# Altium footprint library MAMK2520T1R0M.PcbLib: 1 footprints
Each footprint in its own frame and in the unit in brackets; x right, y up, seen from the top. Pads: shape width x height; smd on the part's side, far side on the other; paste and mask are expansions set on the pad; w line width, h text height; cw(c..) or ccw(c..) is an arc to the next point about the centre after c.
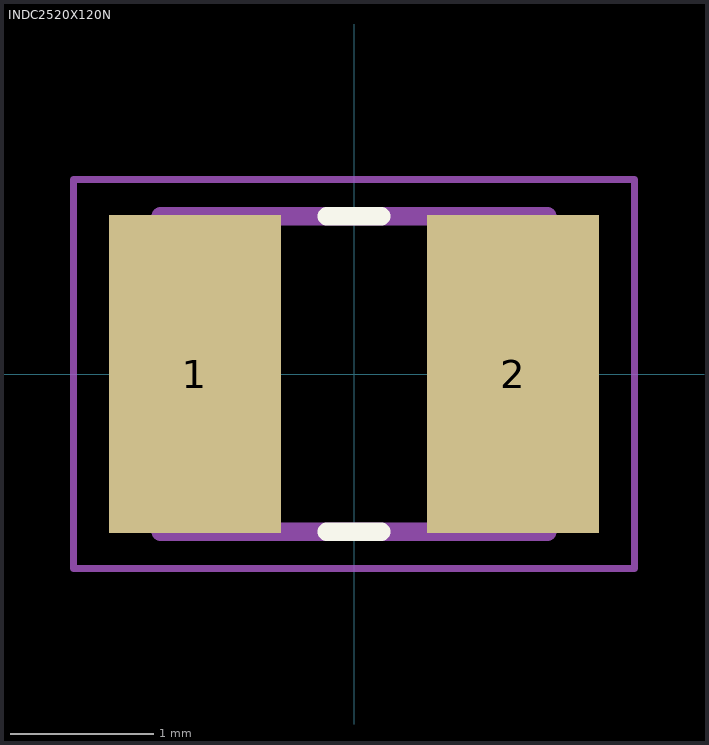
[diagram p0: the footprint, top view; thin cyan lines are the x and y axes]

## INDC2520X120N [mm]
pads (2):
  rect 1.2x2.22 smd: 1(-1.11,0) 2(1.11,0)
Top Overlay:
  lines w0.127: -0.19,-1.1 0.19,-1.1 ; -0.19,1.1 0.19,1.1
Mechanical 13:
  lines w0.127: -1.35,-1.1 -1.35,1.1 ; -1.35,-1.1 1.35,-1.1 ; -1.35,-1.1 -1.35,1.1 ; -1.35,-1.1 1.35,-1.1 ; -1.35,1.1 1.35,1.1 ; -1.35,1.1 1.35,1.1 ; 1.35,-1.1 1.35,1.1 ; 1.35,-1.1 1.35,1.1
Mechanical 15:
  lines w0.05: -1.958,-1.358 -1.958,1.358 1.958,1.358 1.958,-1.358 -1.958,-1.358